# EAGLE library part MC14051BDG (library ON Semiconductor_By_element14_Batch_1)
Analog Multiplexers/Demultiplexers
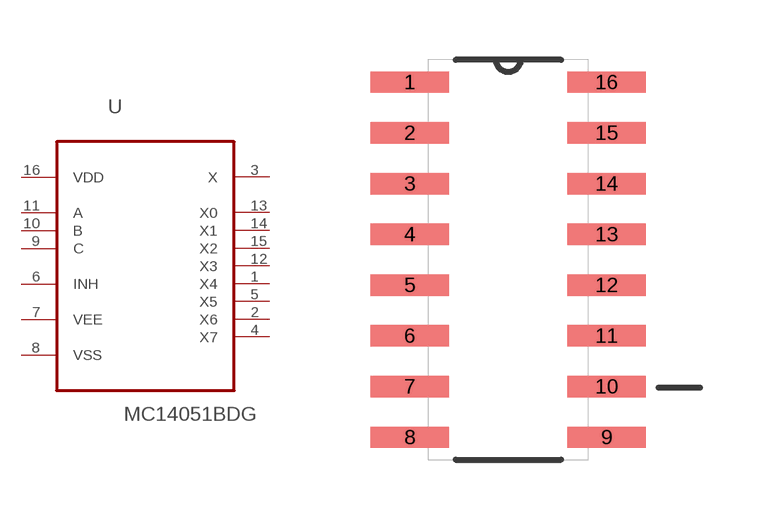
[diagram p241: symbol with the pads of SOIC127P600X175-16N; footprint SOIC127P600X175-16N]

Designator prefix U

## MC14051BDG (MPN: MC14051BDG; OC_FARNELL: 9666400; OC_NEWARK: 45J1061; P1I: o; PACKAGE: SOIC-16; SUPPLIER: ON SEMICONDUCTOR)  [SOIC127P600X175-16N]
1  X4
2  X6
3  X  out
4  X7
5  X5
6  INH  in
7  VEE  pas
8  VSS  pas
9  C  in
10  B  in
11  A  in
12  X3
13  X0
14  X1
15  X2
16  VDD  pwr

## Footprint SOIC127P600X175-16N (pad centres in mm)
smd 1.956 x 0.533: 1 -2.464,4.445; 2 -2.464,3.175; 3 -2.464,1.905; 4 -2.464,0.635; 5 -2.464,-0.635; 6 -2.464,-1.905; 7 -2.464,-3.175; 8 -2.464,-4.445; 9 2.464,-4.445; 10 2.464,-3.175; 11 2.464,-1.905; 12 2.464,-0.635; 13 2.464,0.635; 14 2.464,1.905; 15 2.464,3.175; 16 2.464,4.445